# Altium footprint library Diagonal_Holes.PcbLib: 1 footprints
Each footprint in its own frame and in the unit in brackets; x right, y up, seen from the top. Pads: shape width x height; smd on the part's side, far side on the other; paste and mask are expansions set on the pad; w line width, h text height; cw(c..) or ccw(c..) is an arc to the next point about the centre after c.
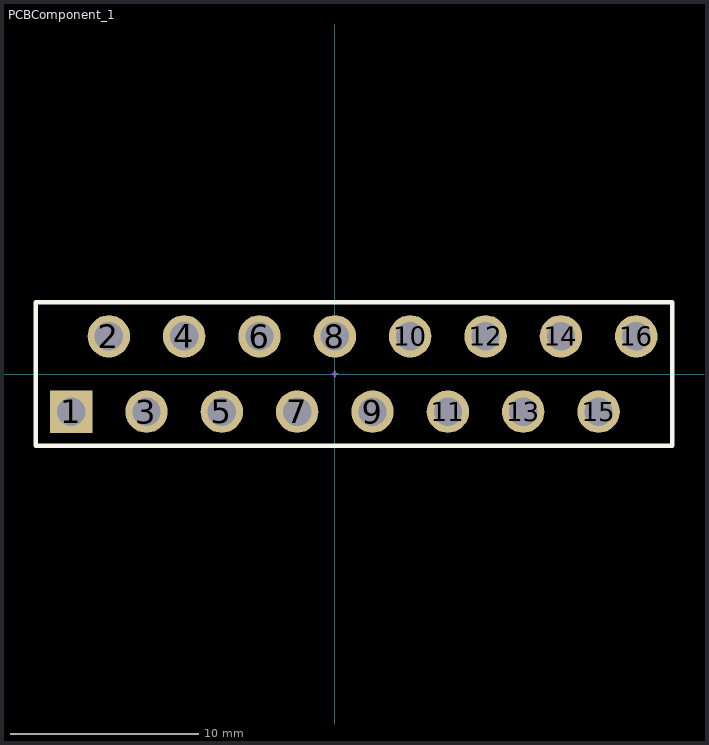
[diagram p0: the footprint, top view; thin cyan lines are the x and y axes]

## PCBComponent_1 [mm]
pads (16):
  rect 2.25x2.25 hole 1.5: 1(-14,-2)
  round 2.25 hole 1.5: 2(-12,2) 3(-10,-2) 4(-8,2) 5(-6,-2) 6(-4,2) 7(-2,-2) 8(0,2) 9(2,-2) 10(4,2) 11(6,-2) 12(8,2) 13(10,-2) 14(12,2) 15(14,-2) 16(16,2)
Top Overlay:
  lines w0.254: -15.875,-3.81 17.907,-3.81 17.907,3.81 -15.875,3.81 -15.875,-3.81
Top Component Center:
  lines w0.127: -0.127,0 0.127,0 ; 0,-0.127 0,0.127
Top Designator:
  text ".Designator" at -6.618,-0.508 h1.52